# Altium schematic symbol library Lib1.SchLib: 37 symbols
Pins are listed as number, name and electrical type; pins without a type are passive.

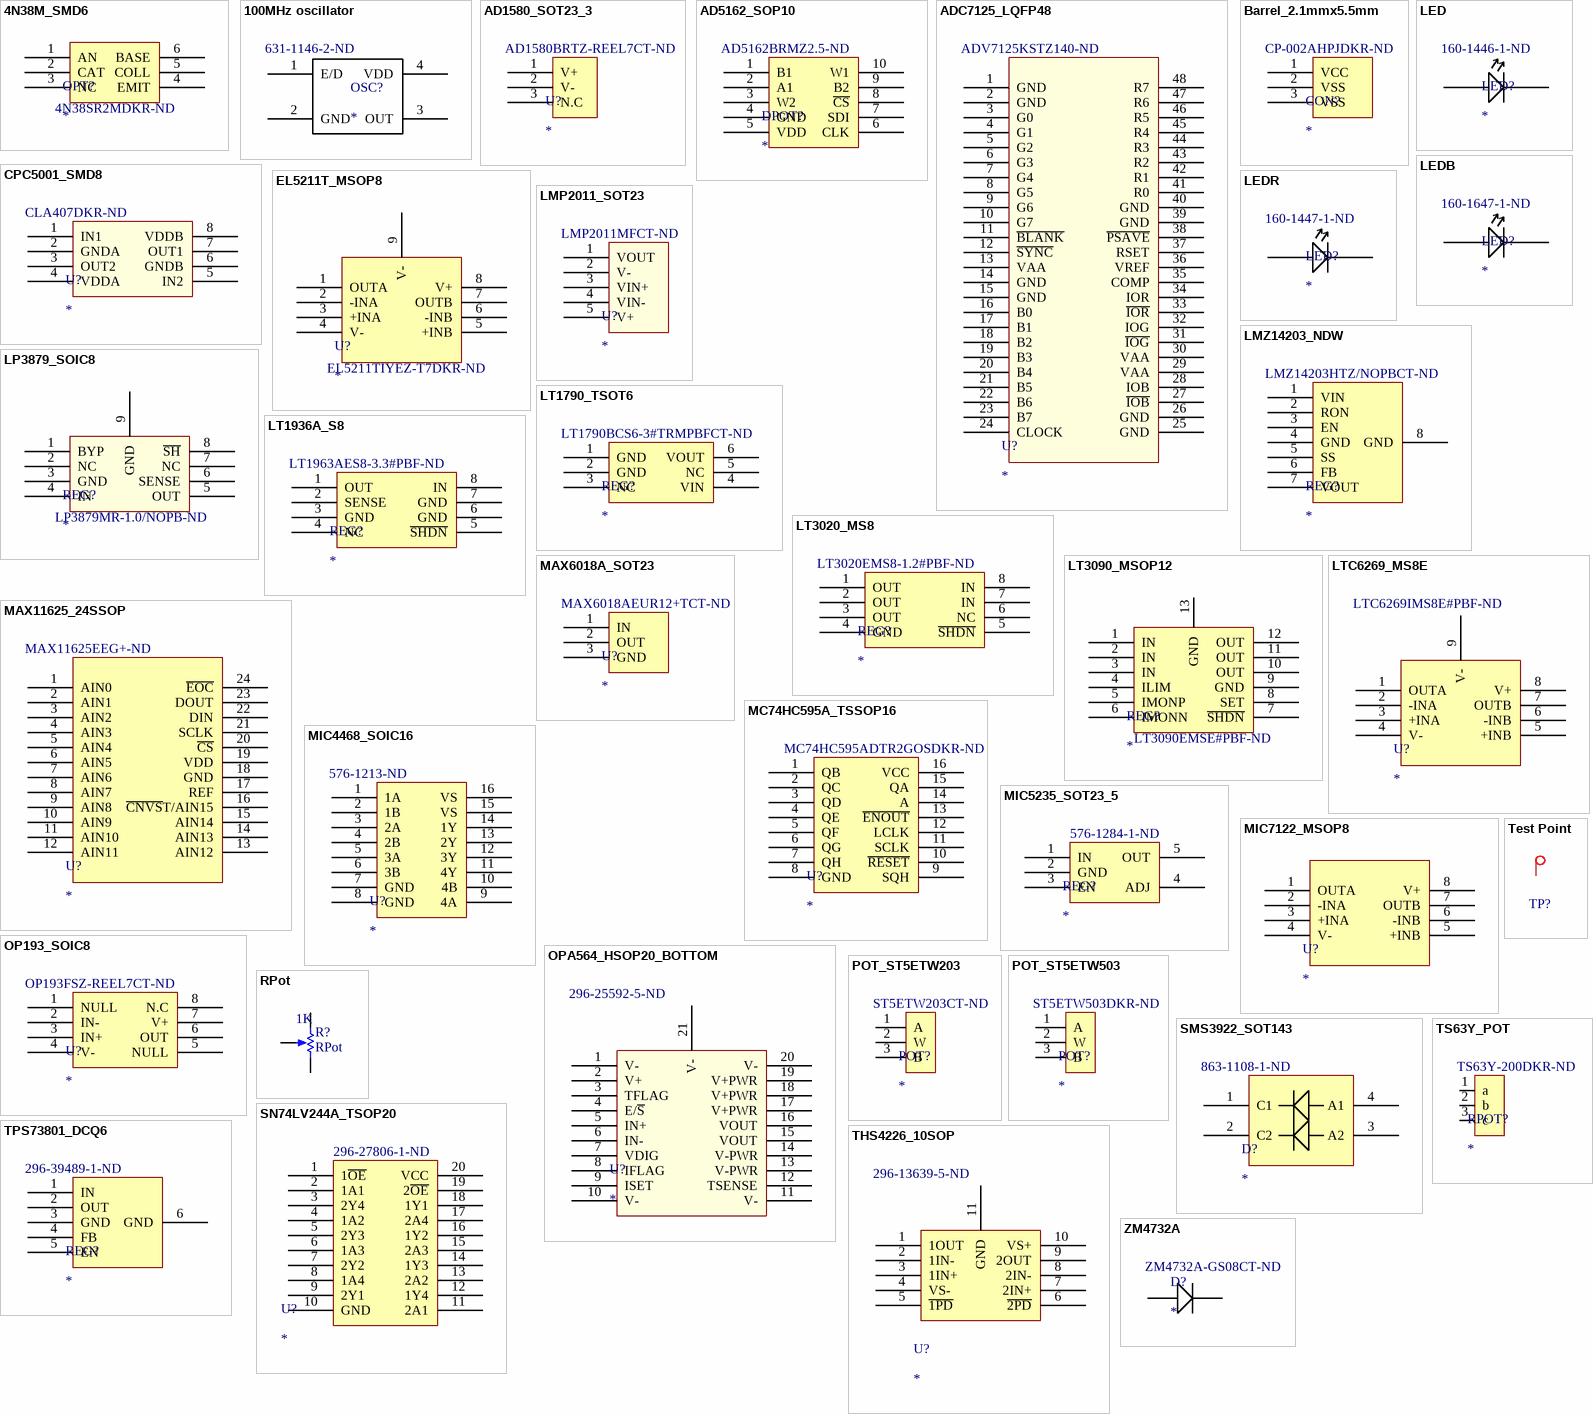
[diagram p0: symbols 4N38M_SMD6 to ZM4732A]

## 4N38M_SMD6
designator OPT?  Supplier Part Number 1: 4N38SR2MDKR-ND
Supplier 1: Digi-Key
footprint 4N38M_SMD6
pins: 1 AN, 2 CAT, 3 NC, 4 EMIT, 5 COLL, 6 BASE

## 100MHz oscillator
designator OSC?  Supplier Part Number 1: 631-1146-2-ND
Supplier 1: Digi-Key
footprint 100MHz oscillator
footprint 100MHz oscillator
pins: 1 E/D, 2 GND, 3 OUT, 4 VDD

## AD1580_SOT23_3
designator U?  Supplier Part Number 1: AD1580BRTZ-REEL7CT-ND
Supplier 1: Digi-Key
footprint AD1580_SOT23_3 (SOT23, 3-Leads, Body 2.92x2.37mm, Pitch 0.95mm, IPC Medium Density)
pins: 1 V+, 2 V-, 3 N.C

## AD5162_SOP10
designator DPOT?  Supplier Part Number 1: AD5162BRMZ2.5-ND
Supplier 1: Digi-Key
footprint AD5162_SOP10
pins: 1 B1, 2 A1, 3 W2, 4 GND, 5 VDD, 6 CLK, 7 SDI, 8 ~{CS}, 9 B2, 10 W1

## ADC7125_LQFP48
designator U?  Supplier Part Number 1: ADV7125KSTZ140-ND
Supplier 1: Digi-Key
footprint ADV7125_LQFP48 (LQFP, 48-Leads, Body 7.00x7.00mm, Pitch 0.50mm, IPC Medium Density)
pins: 1 GND "Ground. All GND pins must be connected.", 2 GND "Ground. All GND pins must be connected.", 3 G0 "Red, Green, and Blue Pixel Data Inputs (TTL Compatible). Pixel data is latched on the rising edge of CLOCK. R0, G0, and B0 are the least significant data bits. Unused pixel data inputs should be connected to either the regular printed circuit board (PCB) power or ground plane.", 4 G1 "Red, Green, and Blue Pixel Data Inputs (TTL Compatible). Pixel data is latched on the rising edge of CLOCK. R0, G0, and B0 are the least significant data bits. Unused pixel data inputs should be connected to either the regular printed circuit board (PCB) power or ground plane.", 5 G2 "Red, Green, and Blue Pixel Data Inputs (TTL Compatible). Pixel data is latched on the rising edge of CLOCK. R0, G0, and B0 are the least significant data bits. Unused pixel data inputs should be connected to either the regular printed circuit board (PCB) power or ground plane.", 6 G3 "Red, Green, and Blue Pixel Data Inputs (TTL Compatible). Pixel data is latched on the rising edge of CLOCK. R0, G0, and B0 are the least significant data bits. Unused pixel data inputs should be connected to either the regular printed circuit board (PCB) power or ground plane.", 7 G4 "Red, Green, and Blue Pixel Data Inputs (TTL Compatible). Pixel data is latched on the rising edge of CLOCK. R0, G0, and B0 are the least significant data bits. Unused pixel data inputs should be connected to either the regular printed circuit board (PCB) power or ground plane.", 8 G5 "Red, Green, and Blue Pixel Data Inputs (TTL Compatible). Pixel data is latched on the rising edge of CLOCK. R0, G0, and B0 are the least significant data bits. Unused pixel data inputs should be connected to either the regular printed circuit board (PCB) power or ground plane.", 9 G6 "Red, Green, and Blue Pixel Data Inputs (TTL Compatible). Pixel data is latched on the rising edge of CLOCK. R0, G0, and B0 are the least significant data bits. Unused pixel data inputs should be connected to either the regular printed circuit board (PCB) power or ground plane.", 10 G7 "Red, Green, and Blue Pixel Data Inputs (TTL Compatible). Pixel data is latched on the rising edge of CLOCK. R0, G0, and B0 are the least significant data bits. Unused pixel data inputs should be connected to either the regular printed circuit board (PCB) power or ground plane.", 11 ~{BLANK} "Composite Blank Control Input (TTL Compatible). A Logic 0 on this control input drives the analog outputs, IOR, IOB, and IOG, to the blanking level. The BLANK signal is latched on the rising edge of CLOCK. While BLANK is a Logic 0, the R0 to R7, G0 to G7, and B0 to B7 pixel inputs are ignored.", 12 ~{SYNC} "Composite Sync Control Input (TTL Compatible). A Logic 0 on the SYNC input switches off a 40 IRE current source. This is internally connected to the IOG analog output. SYNC does not override any other control or data input; therefore, it should only be asserted during the blanking interval. SYNC is latched on the rising edge of CLOCK. If sync information is not required on the green channel, the SYNC input should be tied to Logic 0.", 13 VAA "Analog Power Supply (5 V ± 5%). All VAA pins on the ADV7125 must be connected.", 14 GND "Ground. All GND pins must be connected.", 15 GND "Ground. All GND pins must be connected.", 16 B0 "Red, Green, and Blue Pixel Data Inputs (TTL Compatible). Pixel data is latched on the rising edge of CLOCK. R0, G0, and B0 are the least significant data bits. Unused pixel data inputs should be connected to either the regular printed circuit board (PCB) power or ground plane.", 17 B1 "Red, Green, and Blue Pixel Data Inputs (TTL Compatible). Pixel data is latched on the rising edge of CLOCK. R0, G0, and B0 are the least significant data bits. Unused pixel data inputs should be connected to either the regular printed circuit board (PCB) power or ground plane.", 18 B2 "Red, Green, and Blue Pixel Data Inputs (TTL Compatible). Pixel data is latched on the rising edge of CLOCK. R0, G0, and B0 are the least significant data bits. Unused pixel data inputs should be connected to either the regular printed circuit board (PCB) power or ground plane.", 19 B3 "Red, Green, and Blue Pixel Data Inputs (TTL Compatible). Pixel data is latched on the rising edge of CLOCK. R0, G0, and B0 are the least significant data bits. Unused pixel data inputs should be connected to either the regular printed circuit board (PCB) power or ground plane.", 20 B4 "Red, Green, and Blue Pixel Data Inputs (TTL Compatible). Pixel data is latched on the rising edge of CLOCK. R0, G0, and B0 are the least significant data bits. Unused pixel data inputs should be connected to either the regular printed circuit board (PCB) power or ground plane.", 21 B5 "Red, Green, and Blue Pixel Data Inputs (TTL Compatible). Pixel data is latched on the rising edge of CLOCK. R0, G0, and B0 are the least significant data bits. Unused pixel data inputs should be connected to either the regular printed circuit board (PCB) power or ground plane.", 22 B6 "Red, Green, and Blue Pixel Data Inputs (TTL Compatible). Pixel data is latched on the rising edge of CLOCK. R0, G0, and B0 are the least significant data bits. Unused pixel data inputs should be connected to either the regular printed circuit board (PCB) power or ground plane.", 23 B7 "Red, Green, and Blue Pixel Data Inputs (TTL Compatible). Pixel data is latched on the rising edge of CLOCK. R0, G0, and B0 are the least significant data bits. Unused pixel data inputs should be connected to either the regular printed circuit board (PCB) power or ground plane.", 24 CLOCK "Clock Input (TTL Compatible). The rising edge of CLOCK latches the R0 to R7, G0 to G7, B0 to B7, SYNC, and BLANK pixel and control inputs. It is typically the pixel clock rate of the video system. CLOCK should be driven by a dedicated TTL buffer.", 25 GND "Ground. All GND pins must be connected.", 26 GND "Ground. All GND pins must be connected.", 27 ~{IOB} "Differential Red, Green, and Blue Current Outputs (High Impedance Current Sources). These RGB video outputs are specified to directly drive RS-343A and RS-170 video levels into a doubly terminated 75 Ω load. If the complementary outputs are not required, these outputs should be tied to ground.", 28 IOB "Red, Green, and Blue Current Outputs. These high impedance current sources are capable of directly driving a doubly terminated 75 Ω coaxial cable. All three current outputs should have similar output loads whether or not they are all being used.", 29 VAA "Analog Power Supply (5 V ± 5%). All VAA pins on the ADV7125 must be connected.", 30 VAA "Analog Power Supply (5 V ± 5%). All VAA pins on the ADV7125 must be connected.", 31 ~{IOG} "Differential Red, Green, and Blue Current Outputs (High Impedance Current Sources). These RGB video outputs are specified to directly drive RS-343A and RS-170 video levels into a doubly terminated 75 Ω load. If the complementary outputs are not required, these outputs should be tied to ground.", 32 IOG "Red, Green, and Blue Current Outputs. These high impedance current sources are capable of directly driving a doubly terminated 75 Ω coaxial cable. All three current outputs should have similar output loads whether or not they are all being used.", 33 ~{IOR} "Differential Red, Green, and Blue Current Outputs (High Impedance Current Sources). These RGB video outputs are specified to directly drive RS-343A and RS-170 video levels into a doubly terminated 75 Ω load. If the complementary outputs are not required, these outputs should be tied to ground.", 34 IOR "Red, Green, and Blue Current Outputs. These high impedance current sources are capable of directly driving a doubly terminated 75 Ω coaxial cable. All three current outputs should have similar output loads whether or not they are all being used.", 35 COMP "Compensation Pin. This is a compensation pin for the internal reference amplifier. A 0.1 μF ceramic capacitor must be connected between COMP and VAA.", 36 VREF "Voltage Reference Input for DACs or Voltage Reference Output (1.235 V).", 37 RSET "A resistor (RSET) connected between this pin and GND controls the magnitude of the full-scale video signal.", 38 ~{PSAVE} "Power Save Control Pin. Reduced power consumption is available on the ADV7125 when this pin is active.", 39 GND "Ground. All GND pins must be connected.", 40 GND "Ground. All GND pins must be connected.", 41 R0 "Red, Green, and Blue Pixel Data Inputs (TTL Compatible). Pixel data is latched on the rising edge of CLOCK. R0, G0, and B0 are the least significant data bits. Unused pixel data inputs should be connected to either the regular printed circuit board (PCB) power or ground plane.", 42 R1 "Red, Green, and Blue Pixel Data Inputs (TTL Compatible). Pixel data is latched on the rising edge of CLOCK. R0, G0, and B0 are the least significant data bits. Unused pixel data inputs should be connected to either the regular printed circuit board (PCB) power or ground plane.", 43 R2 "Red, Green, and Blue Pixel Data Inputs (TTL Compatible). Pixel data is latched on the rising edge of CLOCK. R0, G0, and B0 are the least significant data bits. Unused pixel data inputs should be connected to either the regular printed circuit board (PCB) power or ground plane.", 44 R3 "Red, Green, and Blue Pixel Data Inputs (TTL Compatible). Pixel data is latched on the rising edge of CLOCK. R0, G0, and B0 are the least significant data bits. Unused pixel data inputs should be connected to either the regular printed circuit board (PCB) power or ground plane.", 45 R4 "Red, Green, and Blue Pixel Data Inputs (TTL Compatible). Pixel data is latched on the rising edge of CLOCK. R0, G0, and B0 are the least significant data bits. Unused pixel data inputs should be connected to either the regular printed circuit board (PCB) power or ground plane.", 46 R5 "Red, Green, and Blue Pixel Data Inputs (TTL Compatible). Pixel data is latched on the rising edge of CLOCK. R0, G0, and B0 are the least significant data bits. Unused pixel data inputs should be connected to either the regular printed circuit board (PCB) power or ground plane.", 47 R6 "Red, Green, and Blue Pixel Data Inputs (TTL Compatible). Pixel data is latched on the rising edge of CLOCK. R0, G0, and B0 are the least significant data bits. Unused pixel data inputs should be connected to either the regular printed circuit board (PCB) power or ground plane.", 48 R7 "Red, Green, and Blue Pixel Data Inputs (TTL Compatible). Pixel data is latched on the rising edge of CLOCK. R0, G0, and B0 are the least significant data bits. Unused pixel data inputs should be connected to either the regular printed circuit board (PCB) power or ground plane."

## Barrel_2.1mmx5.5mm
designator CON?  Supplier Part Number 1: CP-002AHPJDKR-ND
Supplier 1: Digi-Key
footprint Barrel_2.1mmx5.5mm
pins: 1 VCC, 2 VSS, 3 VSS

## CPC5001_SMD8
designator U?  Supplier Part Number 1: CLA407DKR-ND
Supplier 1: Digi-Key
footprint CPC5001_SMD8
pins: 1 IN1, 2 GNDA, 3 OUT2, 4 VDDA, 5 IN2, 6 GNDB, 7 OUT1, 8 VDDB

## EL5211T_MSOP8
designator U?  Supplier Part Number 1: EL5211TIYEZ-T7DKR-ND
Supplier 1: Digi-Key
footprint EL5211T_MSOP8
pins: 1 OUTA, 2 -INA, 3 +INA, 4 V-, 5 +INB, 6 -INB, 7 OUTB, 8 V+, 9 V-

## LED
designator LED?  Supplier Part Number 1: 160-1446-1-ND
Supplier 1: Digi-Key
footprint LED
pins: 1, 2

## LEDB
designator LED?  Supplier Part Number 1: 160-1647-1-ND
Supplier 1: Digi-Key
footprint LED
pins: 1, 2

## LEDR
designator LED?  Supplier Part Number 1: 160-1447-1-ND
Supplier 1: Digi-Key
footprint LED
pins: 1, 2

## LMP2011_SOT23
designator U?  Supplier Part Number 1: LMP2011MFCT-ND
Supplier 1: Digi-Key
footprint LMP2011_SOT23
pins: 1 VOUT, 2 V-, 3 VIN+, 4 VIN-, 5 V+

## LMZ14203_NDW
designator REG?  Supplier Part Number 1: LMZ14203HTZ/NOPBCT-ND
Supplier 1: Digi-Key
footprint LMZ14203_NDW
pins: 1 VIN, 2 RON, 3 EN, 4 GND, 5 SS, 6 FB, 7 VOUT, 8 GND

## LP3879_SOIC8
designator REG?  Supplier Part Number 1: LP3879MR-1.0/NOPB-ND
Supplier 1: Digi-Key
footprint LP3879_SOIC8
pins: 1 BYP, 2 NC, 3 GND, 4 IN, 5 OUT, 6 SENSE, 7 NC, 8 ~{SH}, 9 GND

## LT1790_TSOT6
designator REG?  Supplier Part Number 1: LT1790BCS6-3#TRMPBFCT-ND
Supplier 1: Digi-Key
footprint LT1790_TSOT6
pins: 1 GND, 2 GND, 3 NC, 4 VIN, 5 NC, 6 VOUT

## LT1936A_S8
designator REG?  Supplier Part Number 1: LT1963AES8-3.3#PBF-ND
Supplier 1: Digi-Key
footprint LT1936A_S8
pins: 1 OUT, 2 SENSE, 3 GND, 4 NC, 5 ~{SHDN}, 6 GND, 7 GND, 8 IN

## LT3020_MS8
designator REG?  Supplier Part Number 1: LT3020EMS8-1.2#PBF-ND
Supplier 1: Digi-Key
footprint LT3020_MS8
pins: 1 OUT, 2 OUT, 3 OUT, 4 GND, 5 ~{SHDN}, 6 NC, 7 IN, 8 IN

## LT3090_MSOP12
designator REG?  Supplier Part Number 1: LT3090EMSE#PBF-ND
Supplier 1: Digi-Key
footprint LT3090_MSOP12
pins: 1 IN, 2 IN, 3 IN, 4 ILIM, 5 IMONP, 6 IMONN, 7 ~{SHDN}, 8 SET, 9 GND, 10 OUT, 11 OUT, 12 OUT, 13 GND

## LTC6269_MS8E
designator U?  Supplier Part Number 1: LTC6269IMS8E#PBF-ND
Supplier 1: Digi-Key
footprint LTC6269_MSOP8 (MSOP, 8-Leads, Body 3.00x3.00mm, Pitch 0.65mm, Thermal Pad 1.88x1.68mm, IPC Medium Density)
pins: 1 OUTA, 2 -INA, 3 +INA, 4 V-, 5 +INB, 6 -INB, 7 OUTB, 8 V+, 9 V-

## MAX6018A_SOT23
designator U?  Supplier Part Number 1: MAX6018AEUR12+TCT-ND
Supplier 1: Digi-Key
footprint MAX6018A_SOT23
pins: 1 IN, 2 OUT, 3 GND

## MAX11625_24SSOP
designator U?  Supplier Part Number 1: MAX11625EEG+-ND
Supplier 1: Digi-Key
footprint TestPoint
footprint MAX11625_24SSOP
pins: 1 AIN0, 2 AIN1, 3 AIN2, 4 AIN3, 5 AIN4, 6 AIN5, 7 AIN6, 8 AIN7, 9 AIN8, 10 AIN9, 11 AIN10, 12 AIN11, 13 AIN12, 14 AIN13, 15 AIN14, 16 ~{CNVS}T/AIN15, 17 REF, 18 GND, 19 VDD, 20 ~{CS}, 21 SCLK, 22 DIN, 23 DOUT, 24 ~{EOC}

## MC74HC595A_TSSOP16
designator U?  Supplier Part Number 1: MC74HC595ADTR2GOSDKR-ND
Supplier 1: Digi-Key
footprint MC74HC595A_TSSOP16
pins: 1 QB, 2 QC, 3 QD, 4 QE, 5 QF, 6 QG, 7 QH, 8 GND, 9 SQH, 10 ~{RESET}, 11 SCLK, 12 LCLK, 13 ~{ENOUT}, 14 A, 15 QA, 16 VCC

## MIC4468_SOIC16
designator U?  Supplier Part Number 1: 576-1213-ND
Supplier 1: Digi-Key
footprint MIC4468_SOIC16
pins: 1 1A, 2 1B, 3 2A, 4 2B, 5 3A, 6 3B, 7 GND, 8 GND, 9 4A, 10 4B, 11 4Y, 12 3Y, 13 2Y, 14 1Y, 15 VS, 16 VS

## MIC5235_SOT23_5
designator REG?  Supplier Part Number 1: 576-1284-1-ND
Supplier 1: Digi-Key
footprint MIC5235_SOT23_5
pins: 1 IN, 2 GND, 3 EN, 4 ADJ, 5 OUT

## MIC7122_MSOP8
designator U?
Supplier 1: Digi-Key; Supplier Part Number 1: 576-1317-1-ND
footprint MIC7122_MSOP8
pins: 1 OUTA, 2 -INA, 3 +INA, 4 V-, 5 +INB, 6 -INB, 7 OUTB, 8 V+

## OP193_SOIC8
designator U?  Supplier Part Number 1: OP193FSZ-REEL7CT-ND
Supplier 1: Digi-Key
footprint OP193_SOIC8
pins: 1 NULL, 2 IN-, 3 IN+, 4 V-, 5 NULL, 6 OUT, 7 V+, 8 N.C

## OPA564_HSOP20_BOTTOM
designator U?  Supplier Part Number 1: 296-25592-5-ND
Supplier 1: Digi-Key
footprint OPA564_HSOP20_BOTTOM (SOIC, 20-Leads, Body 12.82x7.52mm, Pitch 1.27mm, Thermal Pad 4.32x3.81mm, IPC Medium Density)
pins: 1 V-, 2 V+, 3 TFLAG, 4 E/~{S}, 5 IN+, 6 IN-, 7 VDIG, 8 IFLAG, 9 ISET, 10 V-, 11 V-, 12 TSENSE, 13 V-PWR, 14 V-PWR, 15 VOUT, 16 VOUT, 17 V+PWR, 18 V+PWR, 19 V+PWR, 20 V-, 21 V-

## POT_ST5ETW203
designator POT?  Supplier Part Number 1: ST5ETW203CT-ND
Supplier 1: Digi-Key
footprint POT_ST5ETW
pins: 1 A, 2 W, 3 B

## POT_ST5ETW503
designator POT?  Supplier Part Number 1: ST5ETW503DKR-ND
Supplier 1: Digi-Key
footprint POT_ST5ETW
pins: 1 A, 2 W, 3 B

## RPot
designator R?  value 1K
Potentiometer; Sim Note: Enter the Resistance value and the set point into parameter fields.; Set Position: 0.5; Published: 8-Jun-2000; LatestRevisionDate: 17-Jul-2002; LatestRevisionNote: Re-released for DXP Platform.; PackageReference: VR5; Publisher: Altium Limited; PackageDescription: Variable Resistor, Thru-Hole; 3 Leads
footprint VR5 (Thru-Hole; 3 Leads)
simulation model POT (Potentiometer)
footprint VR5 (Thru-Hole; 3 Leads)
pins: 1 TOP, 2 TAP, 3 BOT
1 alternate drawing of the same symbol

## SMS3922_SOT143
designator D?  Supplier Part Number 1: 863-1108-1-ND
Supplier 1: Digi-Key
footprint SMS3922_SOT143 (SOT143, 4-Leads, Body 2.92x2.37mm, Pitch 1.90mm, IPC Medium Density)
pins: 1 C1, 2 C2, 3 A2, 4 A1

## SN74LV244A_TSOP20
designator U?  Supplier Part Number 1: 296-27806-1-ND
Supplier 1: Digi-Key
footprint SN74LV244A_TSOP20
pins: 1 1~{OE}, 2 1A1, 3 2Y4, 4 1A2, 5 2Y3, 6 1A3, 7 2Y2, 8 1A4, 9 2Y1, 10 GND, 11 2A1, 12 1Y4, 13 2A2, 14 1Y3, 15 2A3, 16 1Y2, 17 2A4, 18 1Y1, 19 2~{OE}, 20 VCC

## Test Point
designator TP?  (value not drawn)
Test Point; Supplier 1: Digi-Key; Supplier Part Number 1: 36-5019CT-ND
footprint TestPoint
pins: 1 TP

## THS4226_10SOP
designator U?  Supplier Part Number 1: 296-13639-5-ND
Supplier 1: Digi-Key
footprint THS4226_10SOP (TSSOP, 10-Leads, Body 3.00x3.00mm, Pitch 0.50mm, Thermal Pad 1.88x1.68mm, IPC Medium Density)
pins: 1 1OUT, 2 1IN-, 3 1IN+, 4 VS-, 5 ~{1PD}, 6 ~{2PD}, 7 2IN+, 8 2IN-, 9 2OUT, 10 VS+, 11 GND

## TPS73801_DCQ6
designator REG?  Supplier Part Number 1: 296-39489-1-ND
Supplier 1: Digi-Key
footprint TPS73801_DCQ6
pins: 1 IN, 2 OUT, 3 GND, 4 FB, 5 EN, 6 GND

## TS63Y_POT
designator RPOT?  Supplier Part Number 1: TS63Y-200DKR-ND
Supplier 1: Digi-Key
footprint TS63Y_POT
pins: 1 a, 2 b, 3 c

## ZM4732A
designator D?  Supplier Part Number 1: ZM4732A-GS08CT-ND
Supplier 1: Digi-Key
footprint ZM4732A
pins: 1 anodo, 2 cátodo